# Altium footprint library HDSP-5501.PcbLib: 1 footprints
Each footprint in its own frame and in the unit in brackets; x right, y up, seen from the top. Pads: shape width x height; smd on the part's side, far side on the other; paste and mask are expansions set on the pad; w line width, h text height; cw(c..) or ccw(c..) is an arc to the next point about the centre after c.
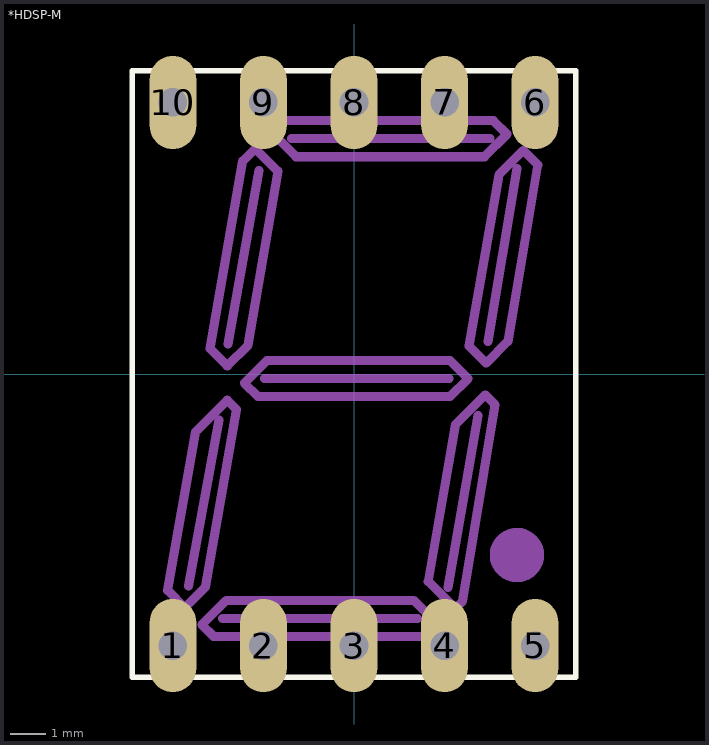
[diagram p0: the footprint, top view; thin cyan lines are the x and y axes]

## *HDSP-M [mm]
pads (10):
  oval 1.308x2.616 hole 0.8: 1(-5.08,-7.62) 2(-2.54,-7.62) 3(0,-7.62) 4(2.54,-7.62) 5(5.08,-7.62) 6(5.08,7.62) 7(2.54,7.62) 8(0,7.62) 9(-2.54,7.62) 10(-5.08,7.62)
Top Overlay:
  lines w0.152: -6.223,-8.509 6.223,-8.509 6.223,8.509 -6.223,8.509 -6.223,-8.509
Mechanical 13:
  circle w0.762: c4.572,-5.08 r0.381
  circle w0.762: c4.572,-5.08 r0.381
  lines w0.254: -5.232,-6.071 -4.75,-6.553 ; -5.232,-6.071 -4.445,-1.626 ; -5.232,-6.071 -4.75,-6.553 ; -5.232,-6.071 -4.445,-1.626 ; -4.75,-6.553 -4.166,-5.969 ; -4.75,-6.553 -4.166,-5.969 ; -4.445,-1.626 -3.556,-0.737 ; -4.445,-1.626 -3.556,-0.737 ; -4.267,-7.036 -3.937,-7.366 ; -4.267,-7.036 -3.581,-6.35 ; -4.267,-7.036 -3.937,-7.366 ; -4.267,-7.036 -3.581,-6.35 ; -4.166,-5.969 -3.302,-0.991 ; -4.166,-5.969 -3.302,-0.991 ; -4.039,0.711 -3.124,5.969 ; -4.039,0.711 -3.556,0.229 ; -4.039,0.711 -3.124,5.969 ; -4.039,0.711 -3.556,0.229 ; -3.937,-7.366 2.032,-7.366 ; -3.937,-7.366 2.032,-7.366 ; -3.581,-6.35 1.676,-6.35 ; -3.581,-6.35 1.676,-6.35 ; -3.556,-0.737 -3.302,-0.991 ; -3.556,-0.737 -3.302,-0.991 ; -3.556,0.229 -2.972,0.813 ; -3.556,0.229 -2.972,0.813 ; -3.124,5.969 -2.769,6.325 ; -3.124,5.969 -2.769,6.325 ; -3.073,-0.254 -2.692,-0.635 ; -3.073,-0.254 -2.438,0.381 ; -3.073,-0.254 -2.692,-0.635 ; -3.073,-0.254 -2.438,0.381 ; -2.972,0.813 -2.134,5.69 ; -2.972,0.813 -2.134,5.69 ; -2.769,6.325 -2.134,5.69 ; -2.769,6.325 -2.134,5.69 ; -2.692,-0.635 2.692,-0.635 ; -2.692,-0.635 2.692,-0.635 ; -2.438,0.381 2.692,0.381 ; -2.438,0.381 2.692,0.381 ; -2.311,6.782 -1.981,7.112 ; -2.311,6.782 -1.626,6.096 ; -2.311,6.782 -1.981,7.112 ; -2.311,6.782 -1.626,6.096 ; -1.981,7.112 3.912,7.112 ; -1.981,7.112 3.912,7.112 ; -1.626,6.096 3.658,6.096 ; -1.626,6.096 3.658,6.096 ; 1.676,-6.35 2.362,-7.036 ; 1.676,-6.35 2.362,-7.036 ; 2.032,-7.366 2.362,-7.036 ; 2.032,-7.366 2.362,-7.036 ; 2.083,-5.817 2.845,-6.579 ; 2.083,-5.817 2.845,-1.422 ; 2.083,-5.817 2.845,-6.579 ; 2.083,-5.817 2.845,-1.422 ; 2.692,-0.635 3.2,-0.127 ; 2.692,-0.635 3.2,-0.127 ; 2.692,0.381 3.2,-0.127 ; 2.692,0.381 3.2,-0.127 ; 2.845,-6.579 3.048,-6.375 ; 2.845,-6.579 3.048,-6.375 ; 2.845,-1.422 3.683,-0.584 ; 2.845,-1.422 3.683,-0.584 ; 3.048,-6.375 3.962,-0.864 ; 3.048,-6.375 3.962,-0.864 ; 3.226,0.787 3.708,0.305 ; 3.226,0.787 4.064,5.588 ; 3.226,0.787 3.708,0.305 ; 3.226,0.787 4.064,5.588 ; 3.658,6.096 4.293,6.731 ; 3.658,6.096 4.293,6.731 ; 3.683,-0.584 3.962,-0.864 ; 3.683,-0.584 3.962,-0.864 ; 3.708,0.305 4.318,0.914 ; 3.708,0.305 4.318,0.914 ; 3.912,7.112 4.293,6.731 ; 3.912,7.112 4.293,6.731 ; 4.064,5.588 4.75,6.274 ; 4.064,5.588 4.75,6.274 ; 4.318,0.914 5.156,5.867 ; 4.318,0.914 5.156,5.867 ; 4.75,6.274 5.156,5.867 ; 4.75,6.274 5.156,5.867 ; -4.648,-5.944 -3.785,-1.295 -4.648,-5.944 ; -3.683,-6.858 1.778,-6.858 -3.683,-6.858 ; -3.531,0.838 -2.667,5.715 -3.531,0.838 ; -2.515,-0.127 2.667,-0.127 -2.515,-0.127 ; -1.753,6.604 3.81,6.604 -1.753,6.604 ; 2.642,-5.994 3.48,-1.168 2.642,-5.994 ; 3.759,0.914 4.572,5.766 3.759,0.914